# Altium schematic symbol library SN74AUC1G86YZPR.SchLib: 2 symbols
Pins are listed as number, name and electrical type; pins without a type are passive.

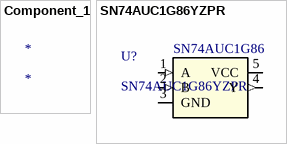
[diagram p0: symbols Component_1 to SN74AUC1G86YZPR]

## Component_1
designator *

## SN74AUC1G86YZPR
designator U?
No Description Available; Mfr_Name: Texas Instruments; Copyright: Copyright (C) 2023 Ultra Librarian. All rights reserved.; Manufacturer_Part_Number: SN74AUC1G86YZPR; RefDes: RefDes; Type: DEV
footprint YZP5
pins: 1 A (in), 2 B (in), 3 GND, 4 Y (out), 5 VCC (power)
text: SN74AUC1G86